# EAGLE library part MA06-1 (library molex_2020)
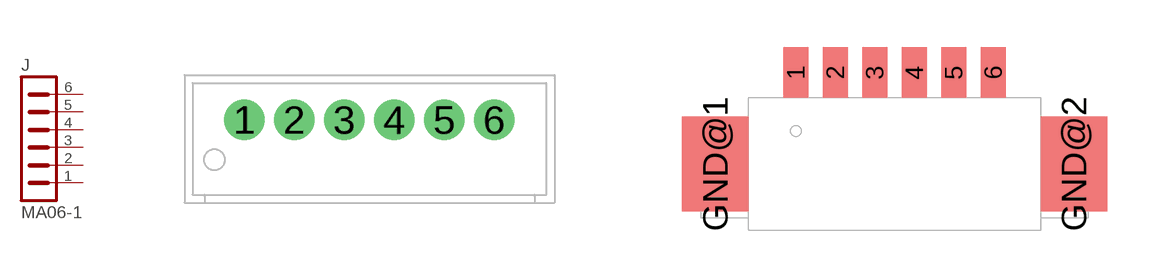
[diagram p2: symbol with the pads of 530470610; footprints 530470610, 53261-0671]

Designator prefix J

## MA06-1  [530470610]
1  1  pas
2  2  pas
3  3  pas
4  4  pas
5  5  pas
6  6  pas

## MA06-1K  [53261-0671]
Pads as for 530470610

## Footprint 530470610 (pad centres in mm)
drill 0.5 pad 0.8 round: 1 -3.085,0; 2 -1.835,0; 3 -0.585,0; 4 0.665,0; 5 1.915,0; 6 3.165,0

## Footprint 53261-0671 (pad centres in mm)
smd 0.8 x 1.6: 1 -3.125,0.8; 2 -1.875,0.8; 3 -0.625,0.8; 4 0.625,0.8; 5 1.875,0.8; 6 3.125,0.8
smd 2.1 x 3: GND@1 -5.675,-2.1; GND@2 5.675,-2.1